# Altium schematic symbol library WCAP-CSGP_0402_X5R.SchLib: 2 symbols
Pins are listed as number, name and electrical type; pins without a type are passive.

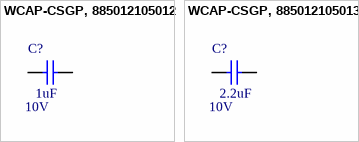
[diagram p0: symbols WCAP-CSGP, 885012105012 to WCAP-CSGP, 885012105013]

## WCAP-CSGP, 885012105012
designator C?, comment 1uF  RatedVoltage: 10V
CAP CER 1UF 10V X5R 0402; Manufacturer: Wurth Elektronik; Manufacturer Part Number: 885012105012; PublishedDate: Aug 2016; ComponentLink1Description: Manufacturer; ComponentLink1URL: http://www.we-online.de; ComponentLink2Description: Datasheet; ComponentLink2URL: http://katalog.we-online.com/pbs/datasheet/885012105012.pdf; Value: 1uF; Size: 0402; CeramicType: X5R
footprint WCAP-CSGP_0402, 1x0.5x0.5
pins: 1, 2

## WCAP-CSGP, 885012105013
designator C?, comment 2.2uF  RatedVoltage: 10V
CAP CER 2.2UF 10V X5R 0402; Manufacturer: Wurth Elektronik; Manufacturer Part Number: 885012105013; PublishedDate: Aug 2016; ComponentLink1Description: Manufacturer; ComponentLink1URL: http://www.we-online.de; ComponentLink2Description: Datasheet; ComponentLink2URL: http://katalog.we-online.com/pbs/datasheet/885012105013.pdf; Value: 2.2uF; Size: 0402; CeramicType: X5R
footprint WCAP-CSGP_0402, 1x0.5x0.5
pins: 1, 2